# Altium footprint library SENSORES.PcbLib: 6 footprints
Each footprint in its own frame and in the unit in brackets; x right, y up, seen from the top. Pads: shape width x height; smd on the part's side, far side on the other; paste and mask are expansions set on the pad; w line width, h text height; cw(c..) or ccw(c..) is an arc to the next point about the centre after c.
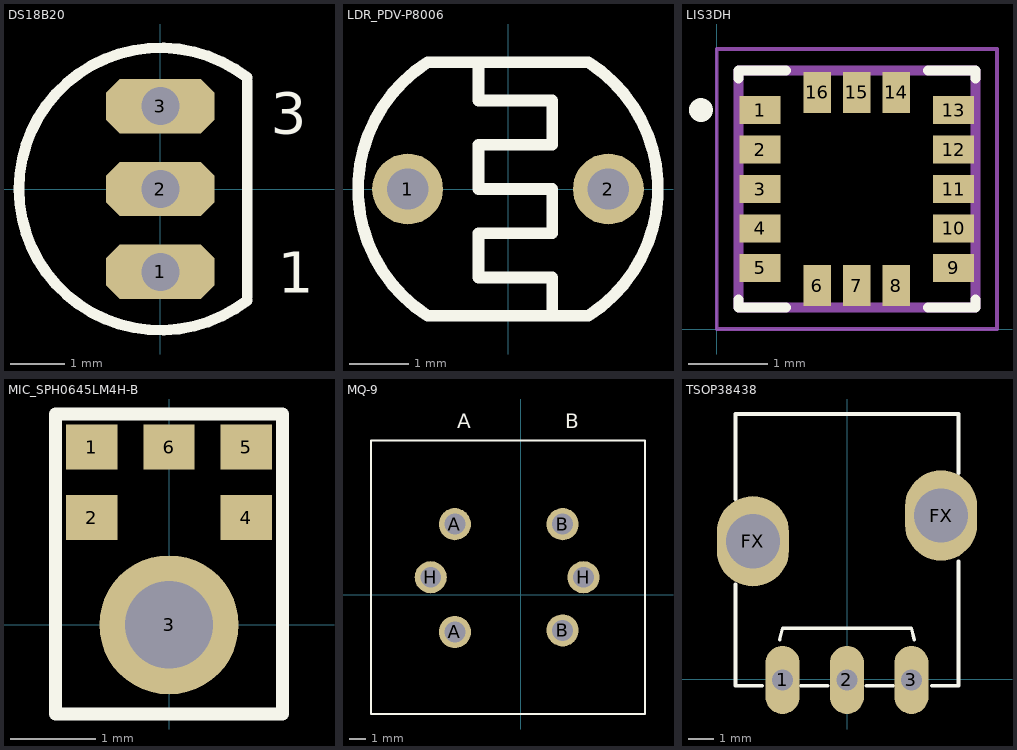
[diagram p0: the footprints below, top view; thin cyan lines are the x and y axes]

## DS18B20 [mm] "SENSOR DIGITAL -55C-125C TO92-3"
pads (3):
  oct 2x1 hole 0.7: 1(0,-1.524) 2(0,0) 3(0,1.524)
Top Overlay:
  lines w0.2: 1.601,-2.049 cw(c0,0) 1.601,2.049 ; 1.6,-1.99 1.6,1.99
  text "3" at 2.032,1.016 h0.76
  text "1" at 2.159,-1.905 h0.76
3D body "SW3dPS-TO-92.STEP": height 10.31, standoff -5.8, extent -3.1,-3.1 1.71,3.1

## LDR_PDV-P8006 [mm] "PTH RADIAL P=3.40mm"
height 2
pads (2):
  round 1.2 hole 0.7: 1(-1.7,0) 2(1.7,0)
Top Overlay:
  lines w0.2: -0.5,2.145 -0.5,1.5 0.75,1.5 0.75,0.75 -0.5,0.75 -0.5,0 0.75,0 0.75,-0.75 -0.5,-0.75 -0.5,-1.5 0.75,-1.5 0.75,-2.145 ; -1.36,-2.145 cw(c0,0) -1.36,2.145 1.36,2.145 cw(c0,0) 1.36,-2.145 -1.36,-2.145
3D body: height 24, standoff 24, extent -0.6,-2.075 0.85,2.05
3D body: height 23.98, standoff 22, extent -2.5,-2.125 2.525,2.15
3D body: height 24, standoff -2, extent 1.501,-0.2 1.899,0.2
3D body: height 24, standoff -2, extent -1.899,-0.2 -1.501,0.2

## LIS3DH [mm]
pads (16):
  rect 0.52x0.35 smd: 1(0.55,2.775) 2(0.55,2.275) 3(0.55,1.775) 4(0.55,1.275) 5(0.55,0.775) 9(3,0.775) 10(3,1.275) 11(3,1.775) 12(3,2.275) 13(3,2.775)
  rect 0.35x0.52 smd: 6(1.275,0.55) 7(1.775,0.55) 8(2.275,0.55) 14(2.275,3) 15(1.775,3) 16(1.275,3)
Top Overlay:
  circle w0.2: c-0.2,2.775 r0.05
  lines w0.127: 0.275,0.375 0.275,0.275 0.875,0.275 ; 0.275,3.175 0.275,3.275 0.875,3.275 ; 2.675,0.275 3.275,0.275 3.275,0.375 ; 2.675,3.275 3.275,3.275 3.275,3.175
Mechanical 13:
  lines w0.127: 0.275,0.275 3.275,0.275 3.275,3.275 0.275,3.275 0.275,0.275
Mechanical 15:
  lines w0.05: 0,0 3.55,0 3.55,3.55 0,3.55 0,0
3D body "LIS3DH.STEP": height 1.01, standoff 0.01, extent 0.275,0.275 3.275,3.275

## MIC_SPH0645LM4H-B [mm] "SOLDER PADS 0.138\" L x 0.104\" W (3.50mm x 2.65mm)"
height 1.1
pads (6):
  rect 0.6x0.522 smd: 1(-0.9,2.074) 2(-0.9,1.252) 4(0.9,1.252) 5(0.9,2.074) 6(0,2.074)
  round 1.624 hole 1.024: 3(0,0)
Top Overlay:
  lines w0.15: -1.325,-1.04 -1.325,2.46 1.325,2.46 1.325,-1.04 -1.325,-1.04
3D body: height 0.28, standoff 0.02, extent -1.325,-1.05 1.325,2.45
3D body: height 0.95, standoff 0.03, extent -1.15,-0.85 1.15,2.25

## MQ-9 [mm] "Sensor de fumaça - monóxido de carbono - CH4"
pads (6):
  round 2 hole 1.3: A(-4.1,4.4) A(-4.1,-2.3) B(2.6,-2.2) B(2.6,4.4) H(-5.6,1.1) H(3.9,1.1)
Top Overlay:
  lines w0.127: -9.3,-7.4 -9.3,9.6 7.71,9.6 7.71,-7.4 -9.3,-7.4
  text "B" at 2.75,10.35 h0.9
  text "A" at -3.95,10.35 h0.9
3D body "User Library-MQ-9.STEP": height 11.2, standoff -5.3, extent -9.3,-7.4 7.71,9.6

## TSOP38438 [mm] "IR Remote Receiver 38kHz 35m 3-Pin"
pads (5):
  oval 1.321x2.642 hole 0.813: 1(-2.501,-0.027) 2(-0.001,-0.027) 3(2.499,-0.027)
  oval 2.8x3.5 hole 2.1: FX(-3.65,5.35) FX(3.65,6.35)
Top Overlay:
  lines w0.127: -2.612,1.53 -2.501,1.973 2.499,1.973 2.61,1.53
  lines w0.15: -4.318,3.683 -4.318,-0.254 -3.302,-0.254 ; -4.318,6.985 -4.318,10.287 4.318,10.287 4.318,8.001 ; -1.778,-0.254 -0.762,-0.254 ; 0.762,-0.254 1.778,-0.254 ; 3.302,-0.254 4.318,-0.254 4.318,4.191 4.318,4.572
3D body: height 1.27, standoff 0, extent 14.732,23.495 14.732,23.495
3D body "82676Minicast_CC.stp": height 17.06, standoff -2.56, extent -4.301,-0.254 4.299,10.246